# EAGLE library part 687135149022 (library Eagle_FPC_CONNECTOR_AND_FFC_CAB (rev18c))
WR-FPC 0.50mm SMT Horiz. Bot. Contact Hinge type WR-FPC 0.50mm 35 pins Hinge type SMT Horizontal Bottom Contact ;=>Code : Con_FPC_ZIF_0.50_6871xx149022_687135149022 <http://katalog.we-online.de/media/images/eican/Con_FPC_ZIF_0.50_687115149022_pf2.jpg> Details see: http://katalog.we-online.de/em/datasheet/6871xx149022.pdf Created 2014-10-08, Karrer Zheng 2014 (C) Wurth Elektronik
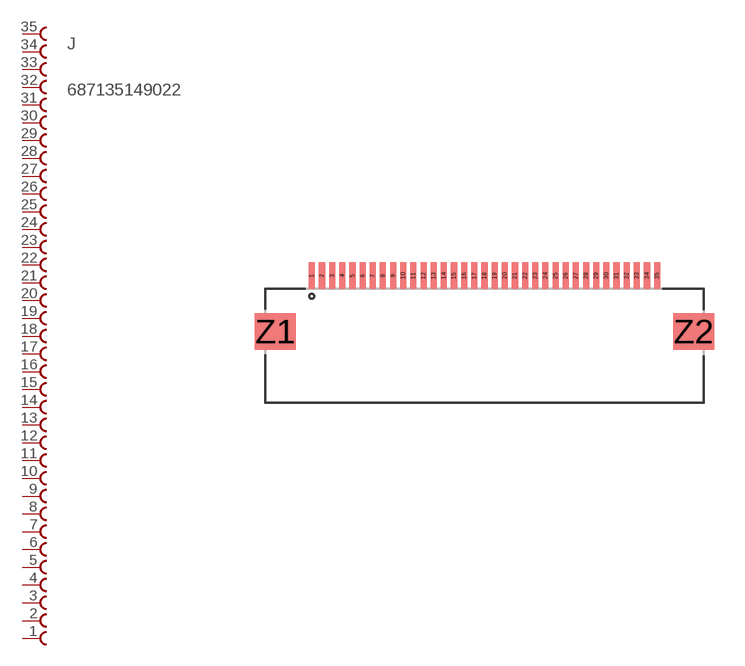
[diagram p121: symbol with the pads of 687135149022; footprint 687135149022]

Designator prefix J

## 687135149022  [687135149022]
1  35  pas
2  34  pas
3  33  pas
4  32  pas
5  31  pas
6  30  pas
7  29  pas
8  28  pas
9  27  pas
10  26  pas
11  25  pas
12  24  pas
13  23  pas
14  22  pas
15  21  pas
16  20  pas
17  19  pas
18  18  pas
19  17  pas
20  16  pas
21  15  pas
22  14  pas
23  13  pas
24  12  pas
25  11  pas
26  10  pas
27  9  pas
28  8  pas
29  7  pas
30  6  pas
31  5  pas
32  4  pas
33  3  pas
34  2  pas
35  1  pas

## Footprint 687135149022 (pad centres in mm)
WR-FPC 0.50mm SMT Horiz. Bot. Contact Hinge type WR-FPC 0.50mm 35pins Hinge type SMT Horizontal Bottom Contact
smd 0.3 x 1.3: 1 -8.5,0; 2 -8,0; 3 -7.5,0; 4 -7,0; 5 -6.5,0; 6 -6,0; 7 -5.5,0; 8 -5,0; 9 -4.5,0; 10 -4,0; 11 -3.5,0; 12 -3,0; 13 -2.5,0; 14 -2,0; 15 -1.5,0; 16 -1,0; 17 -0.5,0; 18 0,0; 19 0.5,0; 20 1,0; 21 1.5,0; 22 2,0; 23 2.5,0; 24 3,0; 25 3.5,0; 26 4,0; 27 4.5,0; 28 5,0; 29 5.5,0; 30 6,0; 31 6.5,0; 32 7,0; 33 7.5,0; 34 8,0; 35 8.5,0
smd 2 x 1.8: Z1 -10.3,-2.75; Z2 10.3,-2.75